# Altium footprint library DXPpcb.PCBLIB: 575 footprints (part 33 of 36)
Each footprint in its own frame and in the unit in brackets; x right, y up, seen from the top. Pads: shape width x height; smd on the part's side, far side on the other; paste and mask are expansions set on the pad; w line width, h text height; cw(c..) or ccw(c..) is an arc to the next point about the centre after c.
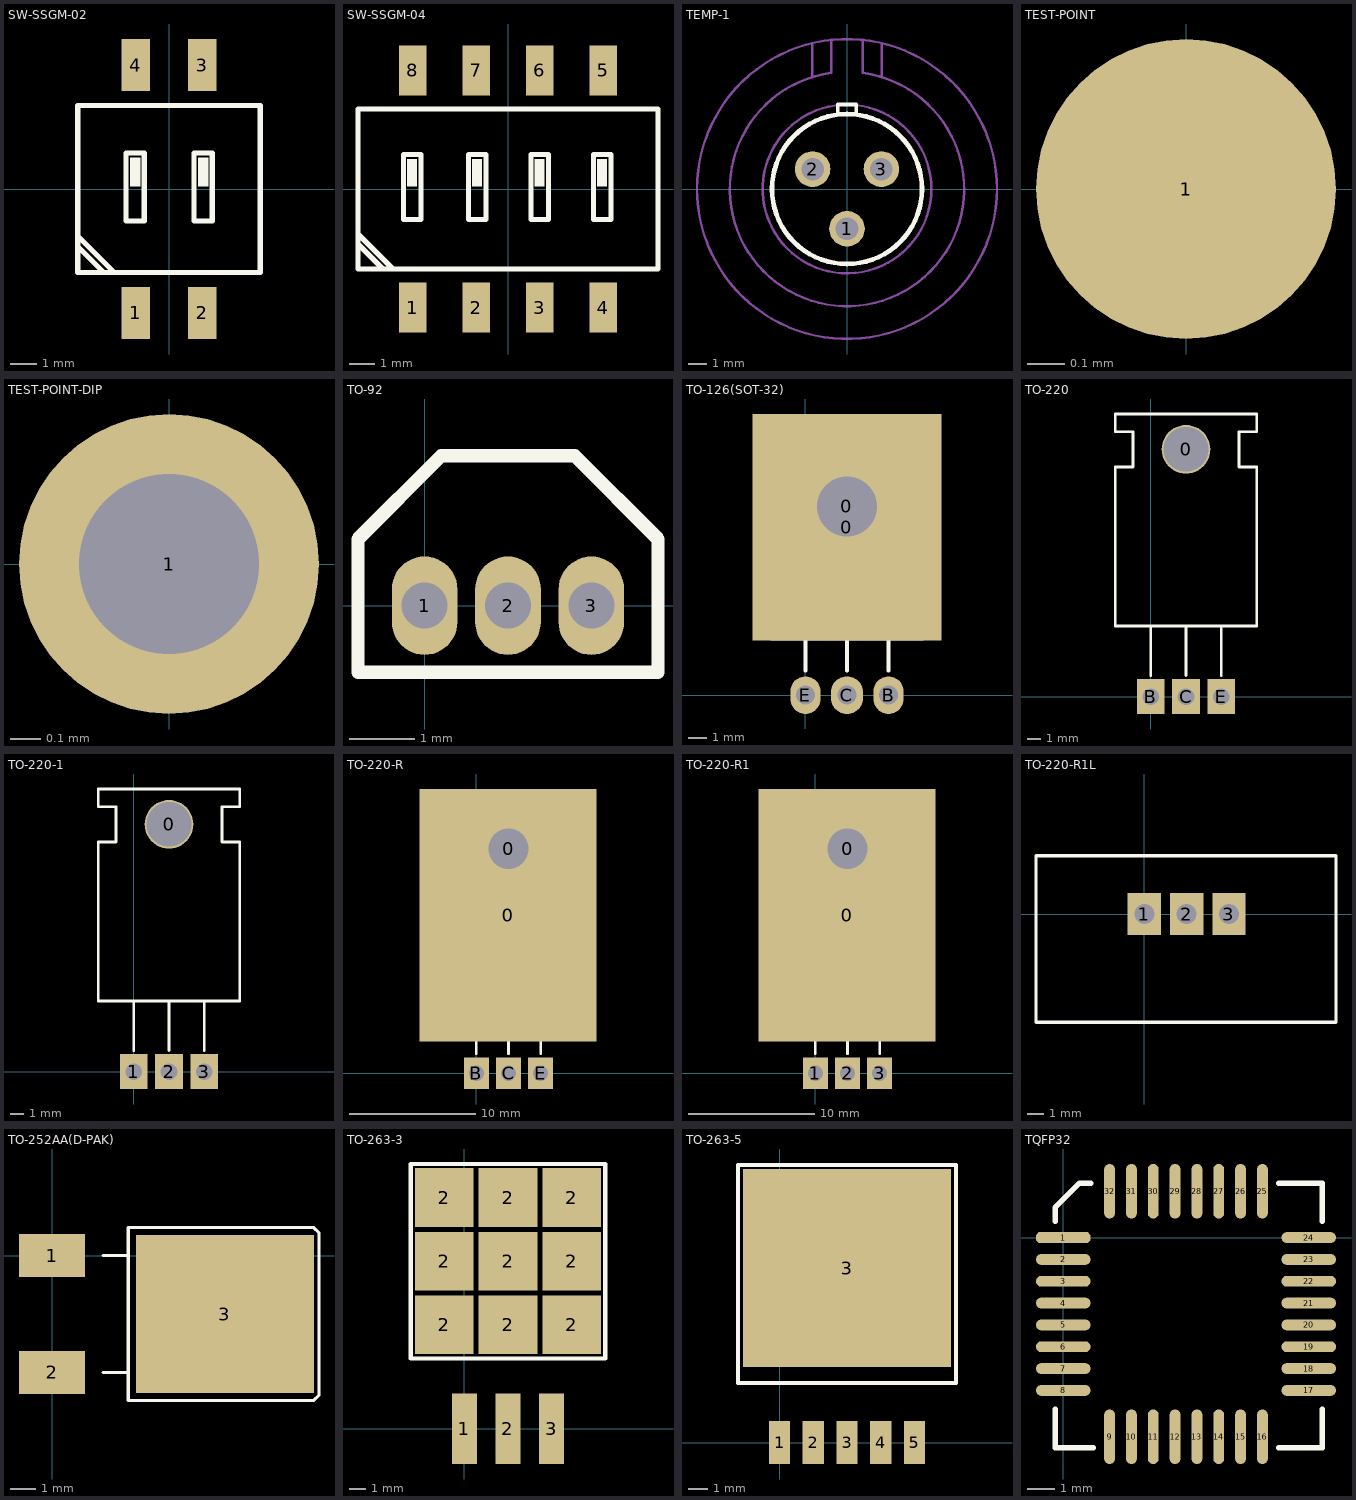
[diagram p32: the footprints below, top view; thin cyan lines are the x and y axes]

## SW-SSGM-02 [mm]
pads (4):
  rect 1.1x2 smd: 1(-1.27,-4.75) 2(1.27,-4.75) 3(1.27,4.75) 4(-1.27,4.75)
TopOverlay:
  rectangle: 1.105,0.1 1.505,1.2
  rectangle: -1.495,0.1 -1.095,1.2
  lines w0.2: -3.5,-2.2 -2.5,-3.2 ; -3.5,-1.8 -2.1,-3.2 ; -3.5,-3.2 3.5,-3.2 3.5,3.2 -3.5,3.2 -3.5,-3.2 ; -1.645,-1.225 -1.645,1.375 -0.945,1.375 -0.945,-1.225 -1.645,-1.225 ; 0.955,-1.225 0.955,1.375 1.655,1.375 1.655,-1.225 0.955,-1.225

## SW-SSGM-04 [mm]
pads (8):
  rect 1.1x2 smd: 1(-3.81,-4.75) 2(-1.27,-4.75) 3(1.27,-4.75) 4(3.81,-4.75) 5(3.81,4.75) 6(1.27,4.75) 7(-1.27,4.75) 8(-3.81,4.75)
TopOverlay:
  rectangle: 3.565,0.1 3.965,1.2
  rectangle: 1.065,0.1 1.465,1.2
  rectangle: -1.435,0.1 -1.035,1.2
  rectangle: -4.035,0.1 -3.635,1.2
  lines w0.2: -6,-2.2 -5,-3.2 ; -6,-1.8 -4.6,-3.2 ; -6,-3.2 6,-3.2 6,3.2 -6,3.2 -6,-3.2 ; -4.185,-1.225 -4.185,1.375 -3.485,1.375 -3.485,-1.225 -4.185,-1.225 ; -1.585,-1.225 -1.585,1.375 -0.885,1.375 -0.885,-1.225 -1.585,-1.225 ; 0.915,-1.225 0.915,1.375 1.615,1.375 1.615,-1.225 0.915,-1.225 ; 3.415,-1.225 3.415,1.375 4.115,1.375 4.115,-1.225 3.415,-1.225

## TEMP-1 [mm]
pads (3):
  round 1.9 hole 1.2: 1(0,-2.12) 2(-1.836,1.06) 3(1.836,1.06)
TopOverlay:
  circle w0.254: c0,0 r4
  lines w0.2: -0.5,4 -0.5,4.5 0.5,4.5 0.5,4
Mechanical3:
  circle w0.127: c0,-2.12 r0.5
  circle w0.127: c1.836,1.06 r0.5
  circle w0.127: c0,0 r4.5
  circle w0.127: c-1.836,1.06 r0.5
  lines w0.127: -2.711,1.06 -0.961,1.06 ; -1.85,5.97 -1.85,7.783 ; -1.836,0.185 -1.836,1.935 ; -0.875,-2.12 0.875,-2.12 ; -0.85,7.955 -0.85,6.192 ccw(c0,0) 0.85,6.192 0.85,7.955 ; 0,-2.995 0,-1.245 ; 0.961,1.06 2.711,1.06 ; 1.836,0.185 1.836,1.935 ; 1.85,5.97 1.85,7.783 ; -8,0 cw(c0,0) 8,0 cw(c0,0) -8,0

## TEST-POINT [mm]
pads (1):
  round 0.8 smd: 1(0,0)

## TEST-POINT-DIP [mm]
pads (1):
  round 1 hole 0.6: 1(0,0)

## TO-92 [mm]
pads (3):
  oval 1x1.5 hole 0.7: 1(0,0) 2(1.27,0) 3(2.54,0)
TopOverlay:
  lines w0.203: -1.016,-1.016 3.556,-1.016 3.556,1.016 2.286,2.286 0.254,2.286 -1.016,1.016 -1.016,-1.016

## TO-126(SOT-32) [mm]
pads (5):
  rect 10x12 smd: 0(2.2,8.9)
  round 3.5 hole 3.2: 0(2.2,10)
  oval 1.6x2 hole 1: B(4.4,0) E(0,0)
  oval 1.7x2 hole 1: C(2.2,0)
TopOverlay:
  lines w0.2: 0,1.3 0,3 ; 2.2,1.3 2.2,3 ; 4.4,1.3 4.4,3 ; -1.8,3 -1.8,14 6.2,14 6.2,3 -1.8,3

## TO-220 [mm]
pads (4):
  round 3.5 hole 3.2: 0(2.546,17.775)
  rect 2x2.5 hole 1.2: B(0.006,-0.005) C(2.546,-0.005) E(5.086,-0.005)
TopOverlay:
  lines w0.2: 0.006,1.519 0.006,5.075 ; 2.546,1.519 2.546,5.075 ; 5.086,1.519 5.086,5.075 ; -2.534,5.075 -2.534,16.505 -1.264,16.505 -1.264,19.045 -2.534,19.045 -2.534,20.315 7.626,20.315 7.626,19.045 6.356,19.045 6.356,16.505 7.626,16.505 7.626,5.075 -2.534,5.075

## TO-220-1 [mm]
pads (4):
  round 3.5 hole 3.2: 0(2.54,17.78)
  rect 2x2.5 hole 1.2: 1(0,0) 2(2.54,0) 3(5.08,0)
TopOverlay:
  lines w0.2: 0,1.524 0,5.08 ; 2.54,1.524 2.54,5.08 ; 5.08,1.524 5.08,5.08 ; -2.54,5.08 -2.54,16.51 -1.27,16.51 -1.27,19.05 -2.54,19.05 -2.54,20.32 7.62,20.32 7.62,19.05 6.35,19.05 6.35,16.51 7.62,16.51 7.62,5.08 -2.54,5.08

## TO-220-R [mm]
pads (5):
  rect 14x20 smd: 0(2.5,12.5)
  round 3.5 hole 3.2: 0(2.54,17.78)
  rect 2x2.5 hole 1.2: B(0,0) C(2.54,0) E(5.08,0)
TopOverlay:
  lines w0.2: 0,1.524 0,5.08 ; 2.54,1.524 2.54,5.08 ; 5.08,1.524 5.08,5.08 ; -2.54,5.08 7.62,5.08 7.62,16.51 6.35,16.51 6.35,19.05 7.62,19.05 7.62,20.32 -2.54,20.32 -2.54,19.05 -1.27,19.05 -1.27,16.51 -2.54,16.51 -2.54,5.08

## TO-220-R1 [mm]
pads (5):
  rect 14x20 smd: 0(2.5,12.5)
  round 3.5 hole 3.2: 0(2.54,17.78)
  rect 2x2.5 hole 1.2: 1(0,0) 2(2.54,0) 3(5.08,0)
TopOverlay:
  lines w0.2: 0,1.524 0,5.08 ; 2.54,1.524 2.54,5.08 ; 5.08,1.524 5.08,5.08 ; -2.54,5.08 -2.54,16.51 -1.27,16.51 -1.27,19.05 -2.54,19.05 -2.54,20.32 7.62,20.32 7.62,19.05 6.35,19.05 6.35,16.51 7.62,16.51 7.62,5.08 -2.54,5.08

## TO-220-R1L [mm]
pads (3):
  rect 2x2.5 hole 1.2: 1(0,0) 2(2.54,0) 3(5.08,0)
TopOverlay:
  lines w0.2: -6.5,-6.5 -6.5,3.5 11.5,3.5 11.5,-6.5 -6.5,-6.5

## TO-252AA(D-PAK) [mm]
pads (3):
  rect 2.6x1.7 smd: 1(0,0) 2(0,-4.6)
  rect 7x6.2 smd: 3(6.8,-2.3)
TopOverlay:
  lines w0.127: 2,-4.6 3,-4.6 ; 2,0 3,0 ; 3,-5.7 10.3,-5.7 10.5,-5.5 10.5,0.9 10.3,1.1 3,1.1 3,-5.7

## TO-263-3 [mm]
pads (12):
  rect 1.5x4.2 smd: 1(0,0) 2(2.6,0) 3(5.2,0)
  rect 3.5x3.5 smd: 2(-1.2,6.2) 2(-1.2,10) 2(-1.2,13.8) 2(2.6,6.2) 2(2.6,10) 2(2.6,13.8) 2(6.4,6.2) 2(6.4,10) 2(6.4,13.8)
TopOverlay:
  lines w0.254: -3.2,4.2 8.4,4.2 8.4,15.8 -3.2,15.8 -3.2,4.2

## TO-263-5 [mm]
pads (6):
  rect 1.07x2.16 smd: 1(0,0) 2(1.7,0) 3(3.4,0) 4(5.1,0) 5(6.8,0)
  rect 10.5x10 smd: 3(3.4,8.8)
TopOverlay:
  lines w0.2: -2.1,3 -2.1,14 8.9,14 8.9,3 -2.1,3

## TQFP32 [mm]
pads (32):
  oct 2x0.4 smd: 1(0,0)
  oval 2x0.4 smd: 2(0,-0.8) 3(0,-1.6) 4(0,-2.4) 5(0,-3.2) 6(0,-4) 7(0,-4.8) 8(0,-5.6) 17(9,-5.6) 18(9,-4.8) 19(9,-4) 20(9,-3.2) 21(9,-2.4) 22(9,-1.6) 23(9,-0.8) 24(9,0)
  oval 0.4x2 smd: 9(1.7,-7.3) 10(2.5,-7.3) 11(3.3,-7.3) 12(4.1,-7.3) 13(4.9,-7.3) 14(5.7,-7.3) 15(6.5,-7.3) 16(7.3,-7.3) 25(7.3,1.7) 26(6.5,1.7) 27(5.7,1.7) 28(4.9,1.7) 29(4.1,1.7) 30(3.3,1.7) 31(2.5,1.7) 32(1.7,1.7)
TopOverlay:
  lines w0.2: -0.3,-6.3 -0.3,-7.7 1.1,-7.7 ; -0.3,0.6 -0.3,1.1 0.6,2 1,2 ; 7.9,-7.7 9.5,-7.7 9.5,-6.3 ; 7.9,2 9.5,2 9.5,0.6